# EAGLE library part ADXL345BCCZ-RLDKR-ND (library eric_personal_parts)
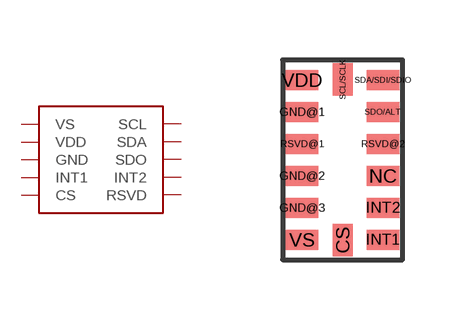
[diagram p2: symbol with the pads of ADXL_345; footprint ADXL_345]

Designator prefix -

## ADXL345BCCZ-RLDKR-ND  [ADXL_345]
CS  CS
GND@1  GND
GND@2  GND
GND@3  GND
INT1  INT1
INT2  INT2
RSVD@1  RSVD
RSVD@2  RSVD
SCL/SCLK  SCL
SDA/SDI/SDIO  SDA
SDO/ALT  SDO
VDD  VDD
VS  VS

## Footprint ADXL_345 (pad centres in mm)
smd 0.5 x 0.813: CS 1.5,0.49; SCL/SCLK 1.5,4.51
smd 0.813 x 0.5: GND@1 0.49,3.7; GND@2 0.49,2.1; GND@3 0.49,1.3; INT1 2.51,0.5; INT2 2.51,1.3; NC 2.51,2.1; RSVD@1 0.49,2.9; RSVD@2 2.51,2.9; SDA/SDI/SDIO 2.51,4.5; SDO/ALT 2.51,3.7; VDD 0.49,4.5; VS 0.49,0.5